# Altium schematic symbol library APM4953KC-TRG.Schlib: 1 symbol
Pins are listed as number, name and electrical type; pins without a type are passive.

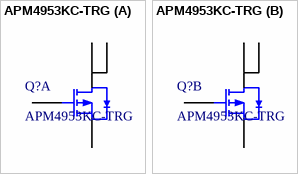
[diagram p0: symbol APM4953KC-TRG]

## APM4953KC-TRG
designator Q?
MOS(场效应管)
footprint SOP-8_150mil
part A pins: 1 S, 2 G, 7 D, 8 D
part B pins: 3 S, 4 G, 5 D, 6 D